# EAGLE library part LT3592 (library SparkFun)
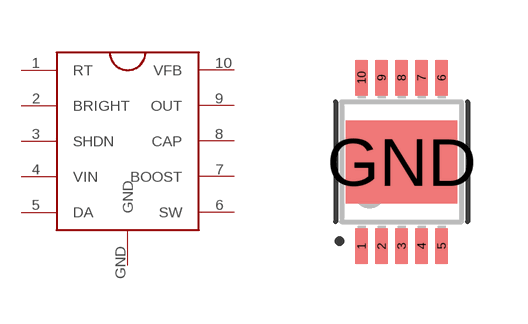
[diagram p391: symbol with the pads of MSOP-10-GNDPAD; footprint MSOP-10-GNDPAD]

Designator prefix -

## LT3592  [MSOP-10-GNDPAD]
1  RT
2  BRIGHT
3  SHDN
4  VIN
5  DA
6  SW
7  BOOST
8  CAP
9  OUT
10  VFB
GND  GND

## Footprint MSOP-10-GNDPAD (pad centres in mm)
10-lead MSOP w/ center GND pad
smd 0.305 x 0.889: 1 -1,-2.11; 2 -0.5,-2.11; 3 0,-2.11; 4 0.5,-2.11; 5 1,-2.11; 6 1,2.11; 7 0.5,2.11; 8 0,2.11; 9 -0.5,2.11; 10 -1,2.11
smd 2.794 x 2.083: GND 0,0